# Altium footprint library PCB - Regulators - TDFN-12 - MAX20472ATCA_V+.PcbLib: 1 footprints
Each footprint in its own frame and in the unit in brackets; x right, y up, seen from the top. Pads: shape width x height; smd on the part's side, far side on the other; paste and mask are expansions set on the pad; w line width, h text height; cw(c..) or ccw(c..) is an arc to the next point about the centre after c.
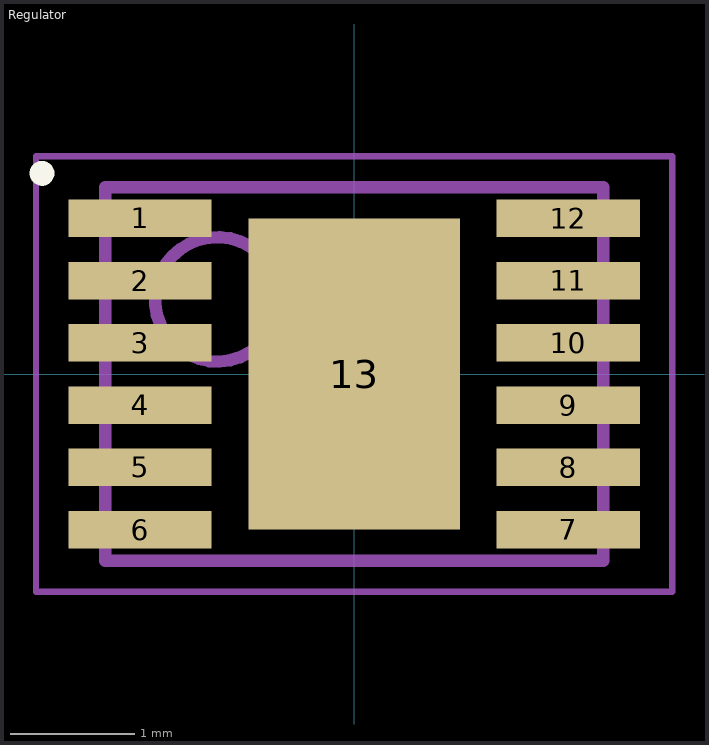
[diagram p0: the footprint, top view; thin cyan lines are the x and y axes]

## Regulator [mm]
pads (13):
  rect 1.15x0.3 smd: 1(-1.72,1.25) 2(-1.72,0.75) 3(-1.72,0.25) 4(-1.72,-0.25) 5(-1.72,-0.75) 6(-1.72,-1.25) 7(1.72,-1.25) 8(1.72,-0.75) 9(1.72,-0.25) 10(1.72,0.25) 11(1.72,0.75) 12(1.72,1.25)
  rect 1.7x2.5 smd: 13(0,0)
Top Overlay:
  circle w0.1: c-2.507,1.612 r0.05
Mechanical 13:
  circle w0.1: c-1.1,0.6 r0.5
  lines w0.1: -2,-1.5 2,-1.5 2,1.5 -2,1.5 -2,-1.5
Mechanical 15:
  lines w0.05: -2.555,-1.75 2.555,-1.75 2.555,1.75 -2.555,1.75 -2.555,-1.75
  lines w0.1: -0.5,0 0.5,0 ; 0,-0.5 0,0.5
3D body: height 2.65, standoff 0.1, extent -2,-1.5 2,1.5